# EAGLE library part AD9515 (library cdp)
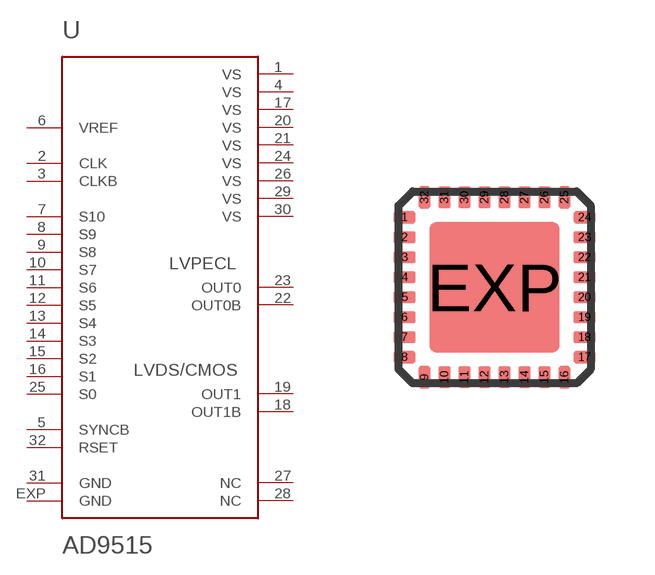
[diagram p31: symbol with the pads of LFCSP32; footprint LFCSP32]

Designator prefix U

## AD9515  [LFCSP32]
1  VS
2  CLK
3  CLKB
4  VS
5  SYNCB
6  VREF
7  S10
8  S9
9  S8
10  S7
11  S6
12  S5
13  S4
14  S3
15  S2
16  S1
17  VS
18  OUT1B
19  OUT1
20  VS
21  VS
22  OUT0B
23  OUT0
24  VS
25  S0
26  VS
27  NC
28  NC
29  VS
30  VS
31  GND
32  RSET
EXP  GND

## Footprint LFCSP32 (pad centres in mm)
32-Lead Frame Chip Scale Package [LFCSP_VQ] 5 mm × 5 mm Very Thin Quad (CP-32-3 COMPLIANT TO JEDEC STANDARDS MO-220-VHHD-2 Source: http://www.analog.com/UploadedFiles/Data_Sheets/762180021AD7142_42_1_prd.pdf
smd 0.55 x 0.3: 1 -2.25,1.75; 2 -2.25,1.25; 3 -2.25,0.75; 4 -2.25,0.25; 5 -2.25,-0.25; 6 -2.25,-0.75; 7 -2.25,-1.25; 8 -2.25,-1.75; 17 2.25,-1.75; 18 2.25,-1.25; 19 2.25,-0.75; 20 2.25,-0.25; 21 2.25,0.25; 22 2.25,0.75; 23 2.25,1.25; 24 2.25,1.75
smd 0.3 x 0.55: 9 -1.75,-2.25; 10 -1.25,-2.25; 11 -0.75,-2.25; 12 -0.25,-2.25; 13 0.25,-2.25; 14 0.75,-2.25; 15 1.25,-2.25; 16 1.75,-2.25; 25 1.75,2.25; 26 1.25,2.25; 27 0.75,2.25; 28 0.25,2.25; 29 -0.25,2.25; 30 -0.75,2.25; 31 -1.25,2.25; 32 -1.75,2.25
smd 3.25 x 3.25: EXP 0,0